# Altium schematic symbol library Schlib1.SchLib: 6 symbols
Pins are listed as number, name and electrical type; pins without a type are passive.

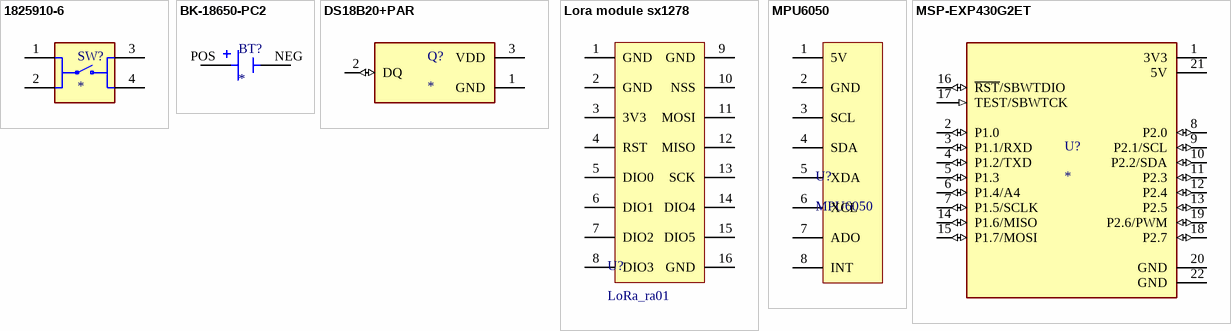
[diagram p0: symbols 1825910-6 to MSP-EXP430G2ET]

## 1825910-6
designator SW?
Switch Push Button OFF (ON) SPST Round Button 0.05A 24VDC Momentary Contact PC Pins Thru-Hole; MP: 1825910-6; MF: TE Connectivity; Value: *; Package: None; Check_prices: https://www.snapeda.com/parts/1825910-6/TE+Connectivity+ALCOSWITCH+Switches/view-part/?ref=eda; SnapEDA_Link: https://www.snapeda.com/parts/1825910-6/TE+Connectivity+ALCOSWITCH+Switches/view-part/?ref=snap; Digi-Key_Part_Number: 450-1650-ND; Purchase-URL: https://pricing.snapeda.com/search/part/1825910-6/?ref=eda
footprint SW_1825910-6-4
pins: 1, 2, 3, 4

## BK-18650-PC2
designator BT?
Battery Holder (Open) 18650 1 Cell PC Pin; MP: BK-18650-PC2; Price: None; Value: *; Package: None; Availability: Unavailable
footprint BAT_BK-18650-PC2
pins: NEG, POS

## DS18B20+PAR
designator Q?
Temperature Sensor Digital, Local -55Â°C ~ 125Â°C 12 b TO-92-3; MF: Maxim Integrated; MP: DS18B20+PAR; Value: *; Purchase-URL: https://pricing.snapeda.com/search/part/DS18B20+PAR/?ref=eda; Package: TO92-3 Maxim; Check_prices: https://www.snapeda.com/parts/DS18B20+PAR/Maxim%20Integrated/view-part/104007/?ref=eda; SnapEDA_Link: https://www.snapeda.com/parts/DS18B20+PAR/Maxim%20Integrated/view-part/104007/?ref=snap; Price: None; Availability: Warning
footprint TO-92
pins: 1 GND (power), 2 DQ (io), 3 VDD (power)

## Lora module sx1278
designator U?, comment LoRa_ra01
ComponentLink1Description: MAKERS_LINK; ComponentLink1URL: https://makerselectronics.com/product/sx1278-lora-02-module-wireless-spread-spectrum-transmission-433mhz
footprint LoRa_pcblib
pins: 1 GND, 2 GND, 3 3V3, 4 RST, 5 DIO0, 6 DIO1, 7 DIO2, 8 DIO3, 9 GND, 10 NSS, 11 MOSI, 12 MISO, 13 SCK, 14 DIO4, 15 DIO5, 16 GND

## MPU6050
designator U?
ComponentLink1Description: MAKERS; ComponentLink1URL: https://makerselectronics.com/product/imu-mpu-6050-gyroscope-accelerometer-sensor-module
footprint MPU6050
pins: 1 5V, 2 GND, 3 SCL, 4 SDA, 5 XDA, 6 XCL, 7 ADO, 8 INT

## MSP-EXP430G2ET
designator U?
Value line MSP430 LaunchPadâ„¢ development kit; MF: Texas Instruments; MP: MSP-EXP430G2ET; Check_prices: https://www.snapeda.com/parts/MSP-EXP430G2ET/Texas+Instruments/view-part/?ref=eda; Value: *; SnapEDA_Link: https://www.snapeda.com/parts/MSP-EXP430G2ET/Texas+Instruments/view-part/?ref=snap; Price: None; Availability: In Stock; Package: None; Purchase-URL: https://pricing.snapeda.com/search/part/MSP-EXP430G2ET/?ref=eda
footprint MODULE_MSP-EXP430G2ET
pins: 1 3V3 (power), 2 P1.0 (io), 3 P1.1/RXD (io), 4 P1.2/TXD (io), 5 P1.3 (io), 6 P1.4/A4 (io), 7 P1.5/SCLK (io), 8 P2.0 (io), 9 P2.1/SCL (io), 10 P2.2/SDA (io), 11 P2.3 (io), 12 P2.4 (io), 13 P2.5 (io), 14 P1.6/MISO (io), 15 P1.7/MOSI (io), 16 ~{RST}/SBWTDIO (io), 17 TEST/SBWTCK (in), 18 P2.7 (io), 19 P2.6/PWM (io), 20 GND (power), 21 5V (power), 22 GND (power)